# Altium footprint library RMCF1210FT1R00.PcbLib: 3 footprints
Each footprint in its own frame and in the unit in brackets; x right, y up, seen from the top. Pads: shape width x height; smd on the part's side, far side on the other; paste and mask are expansions set on the pad; w line width, h text height; cw(c..) or ccw(c..) is an arc to the next point about the centre after c.
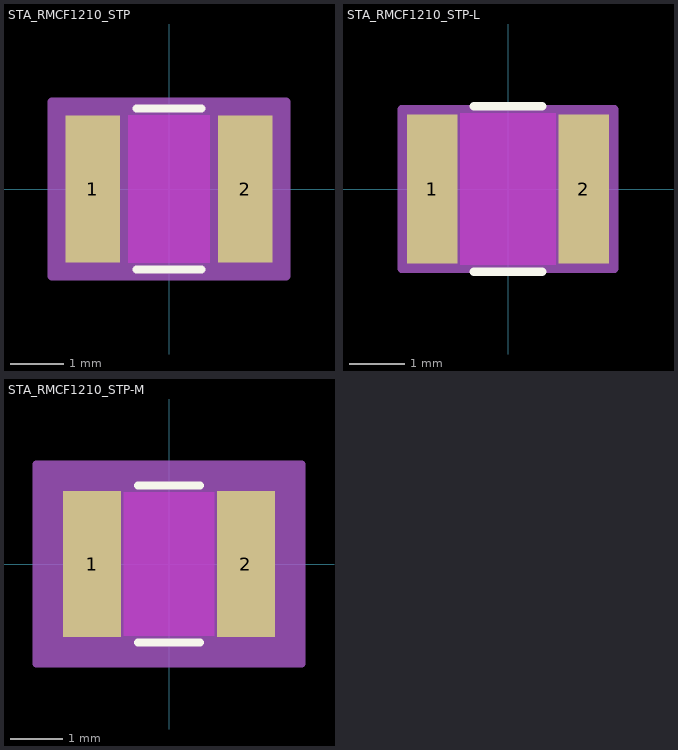
[diagram p0: the footprints below, top view; thin cyan lines are the x and y axes]

## STA_RMCF1210_STP [mil]
pads (2):
  rect 40x108 smd paste+0 mask+0: 1(-56,0) 2(56,0)
Top Layer keep-out:
  region: -30,-52 -30,52 30,52 30,-52
Top Overlay:
  lines w6: -23.89,-59 23.89,-59 ; -23.89,59 23.89,59
Keep-Out Layer:
  region: -30,-54 -30,54 30,54 30,-54
Mechanical 13:
  lines w1: -68,-54 -68,54 ; -68,-54 68,-54 ; -68,-54 -36,-54 -36,54 -68,54 ; -68,-54 -68,54 ; -68,54 68,54 ; 68,-54 68,54 ; 68,-54 68,54 ; 68,-54 36,-54 36,54 68,54
Mechanical 15:
  region: 86,-64 -86,-64 -86,64 86,64
  lines w6: -86,-64 86,-64 86,64 -86,64 -86,-64
3D body "STA_RMCF1210_STP.step": height 27.99, standoff 0, extent -67.99,-54.02 67.99,54.02

## STA_RMCF1210_STP-L [mil]
pads (2):
  rect 36x106 smd paste+0 mask+0: 1(-54,0) 2(54,0)
Top Layer keep-out:
  region: -34,-52 -34,52 34,52 34,-52
Top Overlay:
  lines w6: -24.35,-59 24.35,-59 ; -24.35,59 24.35,59
Keep-Out Layer:
  region: -34,-54 -34,54 34,54 34,-54
Mechanical 13:
  lines w1: -68,-54 -68,54 ; -68,-54 -36,-54 -36,54 -68,54 ; -68,-54 68,-54 ; -68,-54 -68,54 ; -68,54 68,54 ; 68,-54 36,-54 36,54 68,54 ; 68,-54 68,54 ; 68,-54 68,54
Mechanical 15:
  region: 76,-57 -76,-57 -76,57 76,57
  lines w6: -76,-57 -76,57 76,57 76,-57 -76,-57
3D body "STA_RMCF1210_STP.step": height 27.99, standoff 0, extent -67.99,-54.02 67.99,54.02

## STA_RMCF1210_STP-M [mil]
pads (2):
  rect 44x110 smd paste+0 mask+0: 1(-58,0) 2(58,0)
Top Layer keep-out:
  region: -34,-52 -34,52 34,52 34,-52
Top Overlay:
  lines w6: -23.53,-59 23.53,-59 ; -23.53,59 23.53,59
Keep-Out Layer:
  region: -34,-54 -34,54 34,54 34,-54
Mechanical 13:
  lines w1: -68,-54 -68,54 ; -68,-54 -36,-54 -36,54 -68,54 ; -68,-54 68,-54 ; -68,-54 -68,54 ; -68,54 68,54 ; 68,-54 36,-54 36,54 68,54 ; 68,-54 68,54 ; 68,-54 68,54
Mechanical 15:
  region: 100,-75 -100,-75 -100,75 100,75
  lines w6: -100,-75 -100,75 100,75 100,-75 -100,-75
3D body "STA_RMCF1210_STP.step": height 27.99, standoff 0, extent -67.99,-54.02 67.99,54.02